# Altium footprint library MEZD74800A-A.PcbLib: 1 footprints
Each footprint in its own frame and in the unit in brackets; x right, y up, seen from the top. Pads: shape width x height; smd on the part's side, far side on the other; paste and mask are expansions set on the pad; w line width, h text height; cw(c..) or ccw(c..) is an arc to the next point about the centre after c.
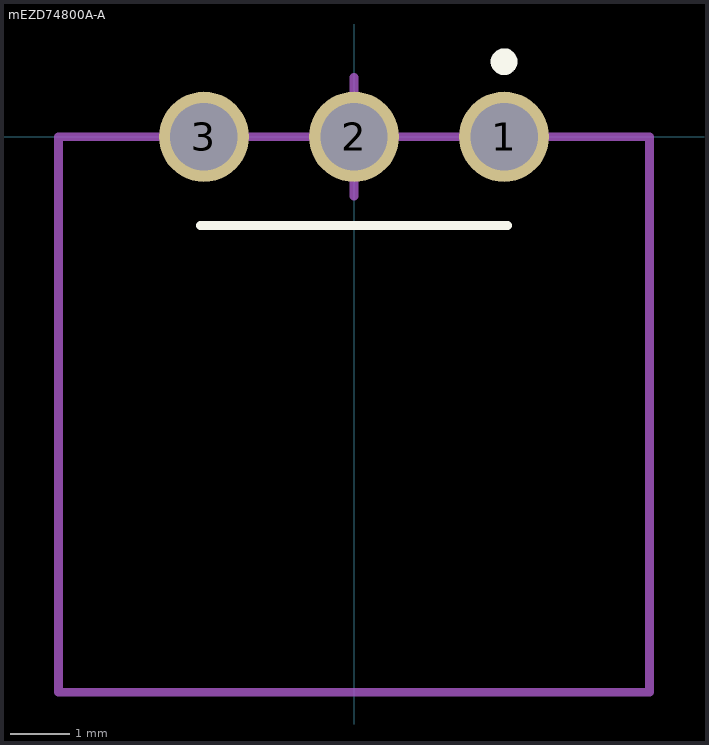
[diagram p0: the footprint, top view; thin cyan lines are the x and y axes]

## mEZD74800A-A [mil]
pads (3):
  round 60 hole 44.88 mask+0: 1(100,0) 2(0,0) 3(-100,0)
Top Overlay:
  circle w10: c100,50 r3.94
  lines w5.91: -102.36,-59.06 102.36,-59.06
Mechanical 13:
  lines w5.91: -196.85,-370.08 -196.85,0 196.85,0 196.85,-370.08 -196.85,-370.08
Mechanical 15:
  lines w5.91: -39.37,0 0,0 ; 0,0 0,-39.37 0,0 ; 0,0 39.37,0 0,0 ; 0,0 0,39.37 0,0
3D body: height 787.4, standoff 0, extent -196.85,-370.08 196.85,0